# Altium footprint library USB.PcbLib: 19 footprints (part 1 of 2)
Each footprint in its own frame and in the unit in brackets; x right, y up, seen from the top. Pads: shape width x height; smd on the part's side, far side on the other; paste and mask are expansions set on the pad; w line width, h text height; cw(c..) or ccw(c..) is an arc to the next point about the centre after c.
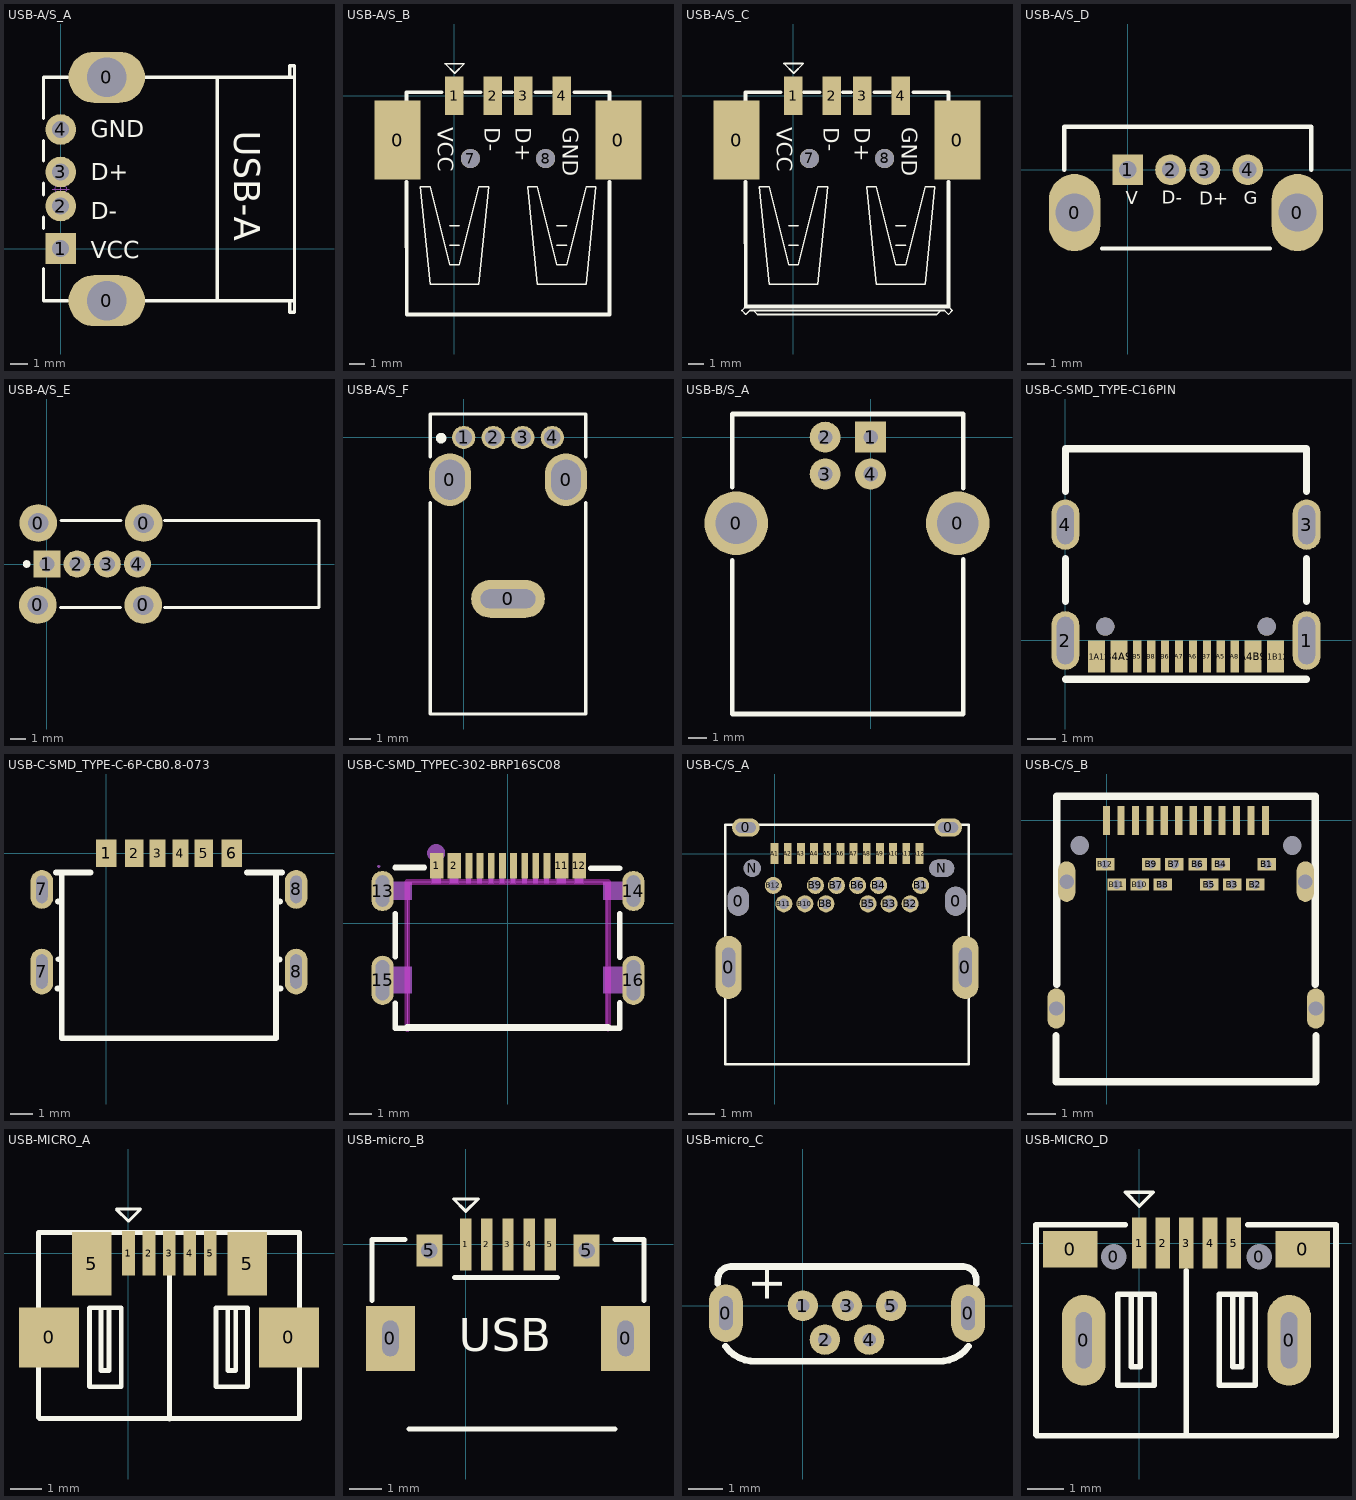
[diagram p0: the footprints below, top view; thin cyan lines are the x and y axes]

## USB-A/S_A [mm]
height 7.01
pads (6):
  oval 4.5x3 hole 2.3: 0(2.71,-3.07) 0(2.71,10.07)
  rect 1.8x1.8 hole 1: 1(0,0)
  round 1.8 hole 1: 2(0,2.5) 3(0,4.5) 4(0,7)
Top Overlay:
  lines w0.2: -1.01,-1.2 -1.01,-3.065 0.41,-3.065 ; -1.01,1.2 -1.01,1.84 ; -1.01,3.16 -1.01,3.84 ; -1.01,5.16 -1.01,6.34 ; -1.01,7.66 -1.01,10.065 0.41,10.065 ; 5.01,-3.065 13.752,-3.065 ; 5.01,10.065 13.752,10.065 ; 13.462,-3.065 13.462,-3.75 13.752,-3.75 13.752,10.75 13.462,10.75 13.462,10.065
  lines w0.203: 9.21,-3.065 9.21,10.065
  text "GND" at 1.778,6.548 h1.02
  text "D+" at 1.778,4.008 h1.02
  text "D-" at 1.778,1.722 h1.02
  text "VCC" at 1.778,-0.564 h1.02
  text "USB-A" at 10.21,6.93 h1.52
Mechanical 15:
  circle w0.05: c0,3.5 r0.35
  lines w0.05: -0.5,3.5 0.5,3.5 ; 0,3 0,4
3D body "USB-A_SA.STEP": height 6.8, standoff -4.31, extent -0.548,-3.81 13.756,10.874

## USB-A/S_B [mm]
pads (8):
  rect 3x5.15 smd: 0(-3.7,-2.9) 0(10.7,-2.9)
  rect 1.2x2.5 smd: 1(0,0) 2(2.5,0) 3(4.5,0) 4(7,0)
  round 1.25 hole 1.25 unplated: 7(1.05,-4.1) 8(5.95,-4.1)
Top Overlay:
  lines w0.1: -0.303,-9.749 0.332,-9.749 ; -0.303,-8.479 0.332,-8.479 ; 6.682,-9.749 7.317,-9.749 ; 6.682,-8.479 7.317,-8.479 ; -2.208,-5.939 -1.573,-5.939 -0.303,-11.019 0.332,-11.019 1.602,-5.939 2.237,-5.939 1.602,-12.289 -1.573,-12.289 -2.208,-5.939 ; -0.613,2.09 0.657,2.09 0.022,1.455 -0.613,2.09 ; 4.777,-5.939 5.412,-5.939 6.682,-11.019 7.317,-11.019 8.587,-5.939 9.222,-5.939 8.587,-12.289 5.412,-12.289 4.777,-5.939
  lines w0.254: -3.104,-5.624 -3.097,-14.26 10.111,-14.26 10.104,-5.624 ; -3.104,-0.29 -3.104,0.218 -0.818,0.218 ; 0.706,0.218 1.722,0.218 ; 3.246,0.218 3.754,0.218 ; 5.278,0.218 6.294,0.218 ; 7.818,0.218 10.111,0.218 10.104,-0.29
  text "VCC" at -1.072,-2.068 h1.02
  text "D-" at 1.976,-2.068 h1.02
  text "D+" at 4.008,-2.068 h1.02
  text "GND" at 7.056,-2.068 h1.02
3D body "USB-A_S-B.STEP": height 6.9, standoff -0.55, extent -4.321,-13.97 11.179,0.73

## USB-A/S_C [mm]
pads (8):
  rect 3x5.15 smd: 0(-3.7,-2.9) 0(10.7,-2.9)
  rect 1.2x2.5 smd: 1(0,0) 2(2.5,0) 3(4.5,0) 4(7,0)
  round 1.25 hole 1.25 unplated: 7(1.05,-4.1) 8(5.95,-4.1)
Top Overlay:
  lines w0.1: -3.097,-13.752 -3.351,-14.006 -3.097,-14.26 -2.843,-14.006 -2.589,-14.006 ; -0.303,-9.749 0.332,-9.749 ; -0.303,-8.479 0.332,-8.479 ; 6.682,-9.749 7.317,-9.749 ; 6.682,-8.479 7.317,-8.479 ; 10.111,-13.752 10.365,-14.006 10.111,-14.26 9.857,-14.006 9.603,-14.006 ; -2.589,-14.006 -2.335,-14.266 9.349,-14.266 9.603,-14.006 ; -2.589,-14.006 9.603,-14.006 ; -2.208,-5.939 -1.573,-12.289 1.602,-12.289 2.237,-5.939 1.602,-5.939 0.332,-11.019 -0.303,-11.019 -1.573,-5.939 -2.208,-5.939 ; -0.613,2.09 0.022,1.455 0.657,2.09 -0.613,2.09 ; 4.777,-5.939 5.412,-12.289 8.587,-12.289 9.222,-5.939 8.587,-5.939 7.317,-11.019 6.682,-11.019 5.412,-5.939 4.777,-5.939
  lines w0.254: -3.104,-5.624 -3.097,-13.752 10.111,-13.752 10.104,-5.624 ; -3.104,-0.29 -3.104,0.218 -0.818,0.218 ; 0.706,0.218 1.722,0.218 ; 3.246,0.218 3.754,0.218 ; 5.278,0.218 6.294,0.218 ; 7.818,0.218 10.111,0.218 10.104,-0.29
  text "GND" at 7.056,-2.068 h1.02
  text "D+" at 4.008,-2.068 h1.02
  text "D-" at 1.976,-2.068 h1.02
  text "VCC" at -1.072,-2.068 h1.02
3D body "USB-A_S-C.STEP": height 7.4, standoff -0.55, extent -4.321,-14.192 11.179,0.508

## USB-A/S_D [mm]
pads (6):
  oval 3x4.5 hole 2.2: 0(-3.1,-2.5) 0(9.9,-2.5)
  rect 1.8x1.8 hole 1: 1(0,0)
  round 1.8 hole 1: 2(2.5,0) 3(4.5,0) 4(7,0)
Top Overlay:
  lines w0.254: -3.7,0 -3.7,2.5 10.7,2.5 10.7,0 ; -1.5,-4.6 8.3,-4.6
  text "D-" at 1.996,-1.981 h0.76
  text "D+" at 4.181,-2.032 h0.76
  text "G" at 6.771,-2.007 h0.76
  text "V" at -0.112,-2.007 h0.76
Mechanical 1:
  lines w0.254: -0.2,-0.2 cw(c0,-0.2) 0,0
3D body "USB-A_S-D.STEP": height 14, standoff -4, extent -3.644,-4.587 10.756,2.413

## USB-A/S_E [mm]
pads (8):
  round 2.5 hole 1.35: 0(-0.607,-2.718) 0(-0.581,2.718) 0(6.393,-2.718) 0(6.419,2.718)
  rect 1.8x1.8 hole 1: 1(0,0)
  round 1.8 hole 1: 2(2,0) 3(4,0) 4(6,0)
Top Overlay:
  circle w0.25: c-1.35,0 r0.125
  lines w0.2: 0.91,-2.878 4.876,-2.878 ; 0.936,2.878 4.902,2.878 ; 7.787,-2.88 18.052,-2.88 18.052,2.88 7.787,2.88

## USB-A/S_F [mm]
pads (7):
  oval 2x2.5 hole 1.4 slot 1.9 at 90 deg: 0(-0.65,-2) 0(4.85,-2)
  oval 3.5x1.8 hole 0.9 slot 2.6 at 0 deg: 0(2.1,-7.65)
  round 1.1 hole 0.8: 1(0,0) 2(1.4,0) 3(2.8,0) 4(4.2,0)
Top Overlay:
  circle w0.25: c-1.073,-0.03 r0.125
  lines w0.152: -1.583,-3.078 -1.583,-13.111 5.783,-13.111 5.783,-3.078 ; -1.583,-0.919 -1.583,1.113 5.783,1.113 5.783,-0.919
3D body "USB-A_S-F.STEP": height 13.7, standoff -3.05, extent -1.532,-13.096 5.588,0.904

## USB-B/S_A [mm]
height 1.1
pads (6):
  round 3.5 hole 2.3: 0(-7.391,-4.742) 0(4.801,-4.742)
  rect 1.7x1.7 hole 0.8: 1(0,0)
  round 1.7 hole 0.8: 2(-2.5,0) 3(-2.5,-2.032) 4(0,-2.032)
Top Overlay:
  lines w0.254: -7.6,-6.769 -7.6,-15.24 5.1,-15.24 5.1,-6.718 ; -7.6,-2.756 -7.6,1.27 5.1,1.27 5.1,-2.807
3D body "USB-B_S-A.STEP": height 11.45, standoff -2.95, extent -8.004,-15.262 5.715,1.038

## USB-C-SMD_TYPE-C16PIN [mm]
pads (18):
  oval 1x2.1 hole 0.6 slot 1.7 at 90 deg: 1(8.638,-0.009) 2(-0.002,-0.009)
  oval 1x1.8 hole 0.6 slot 1.4 at 90 deg: 3(8.638,4.14) 4(-0.002,4.14)
  rect 0.6x1.15 smd: A1B12(7.518,-0.584) A4B9(6.718,-0.584) B1A12(1.118,-0.584) B4A9(1.918,-0.584)
  rect 0.3x1.15 smd: A5(5.568,-0.584) A6(4.568,-0.584) A7(4.068,-0.584) A8(6.068,-0.584) B5(2.568,-0.584) B6(3.568,-0.584) B7(5.068,-0.584) B8(3.068,-0.584)
  round 0.65 hole 0.65 unplated: ""(1.428,0.49) ""(7.208,0.49)
Top Overlay:
  lines w0.254: 0,-1.397 8.636,-1.397 ; 0,1.397 0,2.921 ; 0,5.334 0,6.858 8.636,6.858 8.636,5.334 ; 8.636,1.397 8.636,2.921

## USB-C-SMD_TYPE-C-6P-CB0.8-073 [mm]
pads (10):
  rect 0.9x1.2 smd: 1(0,0) 6(5.5,0)
  rect 0.8x1.2 smd: 2(1.23,0) 5(4.27,0)
  rect 0.7x1.2 smd: 3(2.25,0) 4(3.25,0)
  oval 1x2 hole 0.5 slot 1.5 at 90 deg: 7(-2.825,-5.18) 8(8.325,-5.18)
  oval 1x1.7 hole 0.5 slot 1.2 at 90 deg: 7(-2.825,-1.58) 8(8.325,-1.58)
Top Overlay:
  lines w0.254: -2.207,-0.84 -1.949,-0.84 ; -2.135,-5.92 -1.949,-5.92 ; -2.116,-2.11 -1.949,-2.11 ; -2.095,-4.637 -1.949,-4.637 ; -0.692,-0.84 -1.949,-0.84 ; 6.166,-0.84 7.436,-0.84 ; 7.449,-5.92 7.635,-5.92 ; 7.576,-4.65 7.594,-4.65 ; 7.576,-2.11 7.616,-2.11 ; 7.707,-0.84 7.436,-0.84 ; -1.949,-0.84 -1.949,-8.107 7.436,-8.107 7.436,-0.84
3D body "3D_PCB1_2022-04-06.STEP": height 1.69, standoff -1.5, extent -2.976,-7.45 8.474,-0.1

## USB-C-SMD_TYPEC-302-BRP16SC08 [mm]
pads (16):
  rect 0.6x1.15 smd paste-100 mask+0.05: 1(-3.2,2.563) 2(-2.4,2.563) 11(2.4,2.563) 12(3.2,2.563)
  rect 0.3x1.15 smd paste-100 mask+0.05: 3(-1.75,2.563) 4(-1.25,2.563) 5(-0.75,2.563) 6(-0.25,2.563) 7(0.25,2.563) 8(0.75,2.563) 9(1.25,2.563) 10(1.75,2.563)
  oval 1x1.8 hole 0.61 slot 1.4 at 90 deg paste+0 mask+0.05: 13(-5.62,1.437) 14(5.62,1.437)
  oval 1x2.2 hole 0.61 slot 1.8 at 90 deg paste+0 mask+0.05: 15(-5.62,-2.563) 16(5.62,-2.563)
Top Overlay:
  lines w0.254: -5.055,-3.587 -5.055,-4.713 5.01,-4.713 5.01,-3.58 ; -5.055,-1.513 -5.055,0.413 ; -5.055,2.487 -5.055,2.487 -3.751,2.487 ; -4.52,-4.65 4.48,-4.65 ; 3.711,2.457 4.993,2.457 ; 5.01,-1.52 5.01,0.42
Top Paste:
  drawing of 16 lines, arcs and shapes, not listed
Keep-Out Layer:
  lines w0.254: 4.48,1.812 4.48,1.837 ; 4.48,1.812 4.48,-4.738 4.48,1.812 ; 4.48,1.812 4.48,1.837 ; 4.48,1.837 -4.52,1.837 4.48,1.837 ; -4.52,-4.763 -4.52,1.787 -4.52,-4.763
Mechanical 6:
  circle w0.4: c-3.22,3.137 r0.2
Mechanical 15:
  region: -4.31,-3.153 -5.79,-3.153 -5.79,-1.953 -4.31,-1.953
  region: 5.75,1.047 4.27,1.047 4.27,1.847 5.75,1.847
  region: 5.75,-3.153 4.27,-3.153 4.27,-1.953 5.75,-1.953
  region: -4.31,1.047 -5.79,1.047 -5.79,1.847 -4.31,1.847
  region: -5.79,-1.95 -5.49,-1.95 -5.49,-3.15 -5.79,-3.15
  region: 5.45,-1.95 5.75,-1.95 5.75,-3.15 5.45,-3.15
  region: 5.45,1.85 5.75,1.85 5.75,1.05 5.45,1.05
  region: -5.79,1.85 -5.49,1.85 -5.49,1.05 -5.79,1.05
  region: -1.87,2.541 -1.67,2.541 -1.67,1.791 -1.87,1.791
  region: -1.37,2.541 -1.17,2.541 -1.17,1.791 -1.37,1.791
  region: -0.87,2.541 -0.67,2.541 -0.67,1.791 -0.87,1.791
  region: -0.37,2.541 -0.17,2.541 -0.17,1.791 -0.37,1.791
  region: 0.13,2.541 0.33,2.541 0.33,1.791 0.13,1.791
  region: 0.63,2.541 0.83,2.541 0.83,1.791 0.63,1.791
  region: 1.13,2.541 1.33,2.541 1.33,1.791 1.13,1.791
  region: 1.63,2.541 1.83,2.541 1.83,1.791 1.63,1.791
  region: 2.98,2.541 3.38,2.541 3.38,1.791 2.98,1.791
  region: 2.18,2.541 2.58,2.541 2.58,1.791 2.18,1.791
  region: -3.42,2.541 -3.02,2.541 -3.02,1.791 -3.42,1.791
  region: -2.62,2.541 -2.22,2.541 -2.22,1.791 -2.62,1.791
  region: -5.73,2.541 -5.73,2.566 -5.765,2.601 -5.815,2.601 -5.85,2.566 -5.85,2.541 -5.85,2.516 -5.815,2.481 -5.765,2.481 -5.73,2.516 -5.73,2.541
  lines w0.051: -4.49,-4.659 4.45,-4.659 4.45,1.841 -4.49,1.841 -4.49,-4.659

## USB-C/S_A [mm]
pads (32):
  oval 1x2.4 hole 0.5 slot 1.5 at 90 deg: 0(-1.75,-4.325) 0(7.25,-4.325)
  oval 0.8x1.1 hole 0.8 slot 1.1 at 90 deg: 0(-1.38,-1.81) 0(6.88,-1.81)
  oval 1.05x0.7 hole 0.4 slot 0.75 at 0 deg: 0(-1.095,0.99) 0(6.595,0.99)
  rect 0.3x0.8 smd: A1(0,0) A2(0.5,0) A3(1,0) A4(1.5,0) A5(2,0) A6(2.5,0) A7(3,0) A8(3.5,0) A9(4,0) A10(4.5,0) A11(5,0) A12(5.5,0)
  round 0.65 hole 0.4: B1(5.55,-1.21) B2(5.15,-1.91) B3(4.35,-1.91) B4(3.95,-1.21) B5(3.55,-1.91) B6(3.15,-1.21) B7(2.35,-1.21) B8(1.95,-1.91) B9(1.55,-1.21) B10(1.15,-1.91) B11(0.35,-1.91) B12(-0.05,-1.21)
  round 0.65 hole 0.65: N(-0.85,-0.56)
  oval 0.95x0.65 hole 0.65 slot 0.95 at 0 deg: N(6.35,-0.56)
Top Overlay:
  lines w0.1: -1.875,-8.01 -1.875,1.09 7.375,1.09 7.375,-8.01 -1.875,-8.01

## USB-C/S_B [mm]
pads (30):
  rect 0.25x1 smd: A1(0,0) A2(0.5,0) A3(1,0) A4(1.5,0) A5(2,0) A6(2.5,0) A7(3,0) A8(3.5,0) A9(4,0) A10(4.5,0) A11(5,0) A12(5.5,0)
  rect 0.64x0.42 hole 0.3: B1(5.55,-1.517) B2(5.15,-2.217) B3(4.35,-2.217) B4(3.95,-1.517) B5(3.55,-2.217) B6(3.15,-1.517) B7(2.35,-1.517) B8(1.95,-2.217) B9(1.55,-1.517) B10(1.15,-2.217) B11(0.35,-2.217) B12(-0.05,-1.517)
  oval 0.6x1.4 hole 0.5: ""(-1.74,-6.507) ""(-1.38,-2.117) ""(6.88,-2.117) ""(7.24,-6.507)
  round 0 hole 0.65: ""(-0.925,-0.867) ""(6.425,-0.867)
Top Overlay:
  lines w0.254: -1.75,-7.453 -1.75,-9.037 7.25,-9.037 7.25,-7.453 ; -1.725,-5.667 -1.725,0.833 7.225,0.833 7.225,-5.667

## USB-MICRO_A [mm]
pads (9):
  rect 1.9x1.9 smd: 0(-2.515,-2.667) 0(5.08,-2.667)
  rect 0.4x1.4 smd: 1(0,0) 2(0.648,0) 3(1.295,0) 4(1.943,0) 5(2.591,0)
  rect 1.25x2 smd: 5(-1.168,-0.33) 5(3.759,-0.33)
Top Overlay:
  lines w0.1: -0.381,1.397 0,1.016 0.381,1.397 -0.381,1.397
  lines w0.152: -2.845,-5.207 -2.845,0.66 ; -2.819,-5.232 5.385,-5.232 ; -2.794,0.66 5.385,0.66 ; -0.869,-1.728 -0.869,-3.713 -0.666,-3.713 -0.615,-3.713 -0.615,-1.728 ; 1.296,-5.244 1.296,0.635 ; 3.144,-1.728 3.144,-3.713 3.398,-3.713 3.398,-1.728 ; 5.41,-5.232 5.41,0.66 ; -1.23,-4.227 -1.23,-1.728 -0.23,-1.728 -0.23,-4.227 -1.23,-4.227 ; 2.77,-4.227 3.77,-4.227 3.77,-1.728 2.77,-1.728 2.77,-4.227
3D body "USB-MICRO_A.STEP": height 2.69, standoff -0.24, extent -2.712,-5.08 5.252,0.342

## USB-micro_B [mm]
pads (9):
  rect 1.5x2 hole 0.5 slot 1.1 at 90 deg: 0(-2.325,-2.9) 0(4.925,-2.9)
  rect 0.35x1.6 smd: 1(0,0) 2(0.65,0) 3(1.3,0) 4(1.95,0) 5(2.6,0)
  rect 0.8x1 hole 0.5: 5(-1.125,-0.19) 5(3.725,-0.19)
Top Overlay:
  lines w0.1: -0.381,1.397 0,1.016 0.381,1.397 -0.381,1.397
  lines w0.152: -2.891,-1.732 -2.891,0.148 -1.875,0.148 ; -1.748,-5.694 4.602,-5.694 ; -0.35,-1.025 2.825,-1.025 ; 4.602,0.148 5.491,0.148 5.491,-1.732
  text "USB" at -0.224,-3.302 h1.02
3D body "USB-MICRO_B.STEP": height 2.8, standoff -0.95, extent -2.701,-5.6 5.301,0

## USB-micro_C [mm]
pads (7):
  oval 1x1.7 hole 0.4 slot 1 at 90 deg: 0(-2.275,-0.22) 0(4.875,-0.22)
  round 0.9 hole 0.4: 1(0,0) 2(0.65,-1) 3(1.3,0) 4(1.95,-1) 5(2.6,0)
Top Overlay:
  lines w0.2: -2.51,0.643 -2.51,0.77 cw(c-2.129,0.77) -2.129,1.151 -1.875,1.151 -1.494,1.151 4.094,1.151 4.475,1.151 4.729,1.151 cw(c4.729,0.77) 5.11,0.77 5.11,0.643 ; -2.287,-1.197 ccw(c-1.418,-0.576) -1.367,-1.643 ; -1.329,-1.643 -1.113,-1.643 3.713,-1.643 3.967,-1.643 ccw(c4.018,-0.576) 4.887,-1.197
  text "+" at -0.605,0.059 h1.02
3D body "USB-MICRO_C.STEP": height 5.65, standoff -1.55, extent -2.668,-1.741 5.334,1.233

## USB-MICRO_D [mm]
pads (11):
  rect 1.5x1 smd: 0(-1.905,-0.167) 0(4.495,-0.167)
  oval 1.2x2.5 hole 0.45 slot 1.55 at 90 deg: 0(-1.53,-2.673) 0(4.12,-2.673)
  round 0.6 hole 0.7 unplated: 0(-0.705,-0.373) 0(3.295,-0.373)
  rect 0.4x1.4 smd: 1(0,0) 2(0.648,0) 3(1.295,0) 4(1.943,0) 5(2.591,0)
Top Overlay:
  lines w0.1: -0.381,1.397 0,1.016 0.381,1.397 -0.381,1.397
  lines w0.15: -2.845,0.508 -0.394,0.508 ; 1.295,-5.296 1.295,-0.762 ; 2.984,0.508 5.41,0.508
  lines w0.152: -2.845,-5.271 -2.845,0.508 ; -2.82,-5.296 5.385,-5.296 ; -0.229,-1.41 -0.229,-3.395 -0.025,-3.395 0.025,-3.395 0.025,-1.41 ; 2.565,-1.41 2.565,-3.395 2.819,-3.395 2.819,-1.41 ; 5.41,-5.296 5.41,0.508 ; -0.589,-3.91 0.411,-3.91 0.411,-1.41 -0.589,-1.41 -0.589,-3.91 ; 2.191,-3.91 2.191,-1.41 3.191,-1.41 3.191,-3.91 2.191,-3.91
3D body "USB-MICRO_D.STEP": height 2.8, standoff -1.35, extent -2.731,-5.346 5.271,0.254